# Altium footprint library Seeed-OPL-Moudle.PCBLIB: 18 footprints (part 2 of 2)
Each footprint in its own frame and in the unit in brackets; x right, y up, seen from the top. Pads: shape width x height; smd on the part's side, far side on the other; paste and mask are expansions set on the pad; w line width, h text height; cw(c..) or ccw(c..) is an arc to the next point about the centre after c.
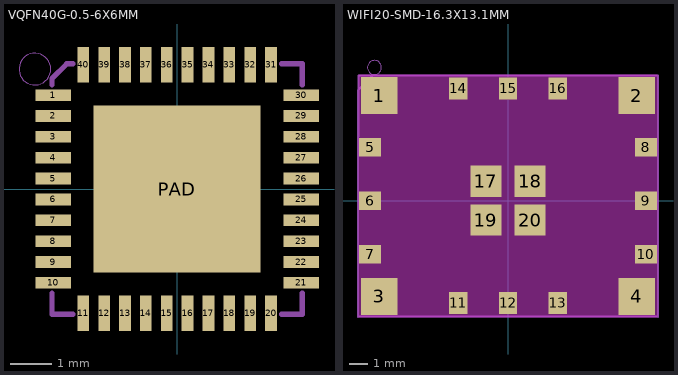
[diagram p1: the footprints below, top view; thin cyan lines are the x and y axes]

## VQFN40G-0.5-6X6MM [mm]
pads (41):
  rect 0.85x0.28 smd: 1(-2.975,2.25) 2(-2.975,1.75) 3(-2.975,1.25) 4(-2.975,0.75) 5(-2.975,0.25) 6(-2.975,-0.25) 7(-2.975,-0.75) 8(-2.975,-1.25) 9(-2.975,-1.75) 10(-2.975,-2.25) 21(2.975,-2.25) 22(2.975,-1.75) 23(2.975,-1.25) 24(2.975,-0.75) 25(2.975,-0.25) 26(2.975,0.25) 27(2.975,0.75) 28(2.975,1.25) 29(2.975,1.75) 30(2.975,2.25)
  rect 0.28x0.85 smd: 11(-2.25,-2.975) 12(-1.75,-2.975) 13(-1.25,-2.975) 14(-0.75,-2.975) 15(-0.25,-2.975) 16(0.25,-2.975) 17(0.75,-2.975) 18(1.25,-2.975) 19(1.75,-2.975) 20(2.25,-2.975) 31(2.25,2.975) 32(1.75,2.975) 33(1.25,2.975) 34(0.75,2.975) 35(0.25,2.975) 36(-0.25,2.975) 37(-0.75,2.975) 38(-1.25,2.975) 39(-1.75,2.975) 40(-2.25,2.975)
  rect 4x4 smd: PAD(0,0)
Mechanical 2:
  lines w0.127: -3,-2.5 -3,-3 -2.5,-3 ; -3,2.5 -3,2.646 -2.646,3 -2.5,3 ; 2.5,-3 3,-3 3,-2.5 ; 2.5,3 3,3 3,2.5
Mechanical 6:
  circle w0: c-3.41,2.875 r0.381

## WIFI20-SMD-16.3X13.1MM [mm]
pads (20):
  rect 2x2 smd: 1(-7,5.708) 2(7,5.708) 3(-7,-5.2) 4(7,-5.2)
  rect 1.2x1 smd: 5(-7.493,2.9) 6(-7.493,0) 7(-7.493,-2.9) 8(7.493,2.9) 9(7.493,0) 10(7.493,-2.9)
  rect 1x1.2 smd: 11(-2.7,-5.558) 12(0,-5.558) 13(2.7,-5.558) 14(-2.7,6.096) 15(0,6.096) 16(2.7,6.096)
  rect 1.7x1.7 smd: 17(-1.2,1.05) 18(1.2,1.05) 19(-1.2,-1.05) 20(1.2,-1.05)
Keep-Out Layer:
  rectangle: -8.128,-6.35 8.128,6.858
Mechanical 2:
  circle w0: c-7.259,7.239 r0.381
  lines w0.127: -8.15,-6.3 -8.15,-3.5 ; -8.15,-6.296 8.15,-6.296 ; -8.15,-2.25 -8.15,-0.75 ; -8.15,0.5 -8.15,2.25 ; -8.125,3.5 -8.125,6.75 ; -8.101,6.804 8.15,6.804 ; 8.15,-6.3 8.15,-3.5 ; 8.15,-2.25 8.15,-0.75 ; 8.15,0.5 8.15,2.25 ; 8.15,3.5 8.15,6.75
Mechanical 18:
  lines w0.127: -8.15,-6.296 -8.15,6.005 -7.352,6.804 ; 8.15,-6.296 8.15,6.804